# EAGLE library part CON-22-12-2064 (library zz-m-pad-2.1)
CONNECTOR wire to board 2.54 mm (.1 inch) pitch header
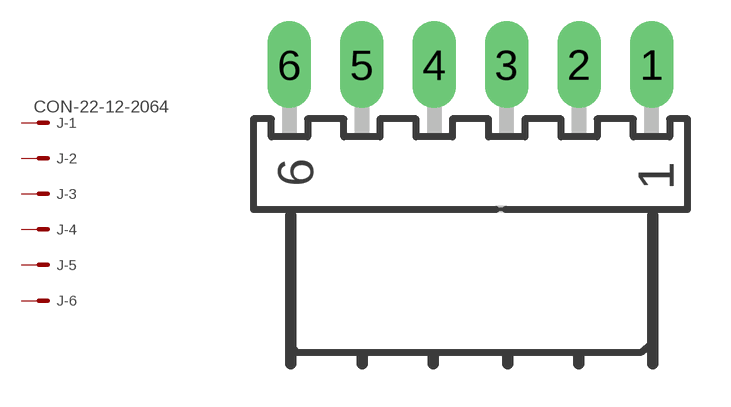
[diagram p94: symbol with the pads of 7478-6; footprint 7478-6]

Designator prefix J; gates -1=MV -2=M -3=M -4=M -5=M -6=M

## CON-22-12-2064-  [7478-6]
1  -1:S  pas
2  -2:S  pas
3  -3:S  pas
4  -4:S  pas
5  -5:S  pas
6  -6:S  pas

## Footprint 7478-6 (pad centres in mm)
MOLEX 2.54mm KK RA CONNECTOR Fixed Orientation
drill 1.02 long: 1 6.35,0; 2 3.81,0; 3 1.27,0; 4 -1.27,0; 5 -3.81,0; 6 -6.35,0